# Altium schematic symbol library SWT-6.SchLib: 1 symbol
Pins are listed as number, name and electrical type; pins without a type are passive.

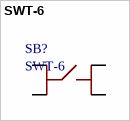
[diagram p0: symbol SWT-6]

## SWT-6
designator SB?
footprint SWT-6
pins: 1, 2, 3, 4